# EAGLE library part TL052 (library EAG_2)
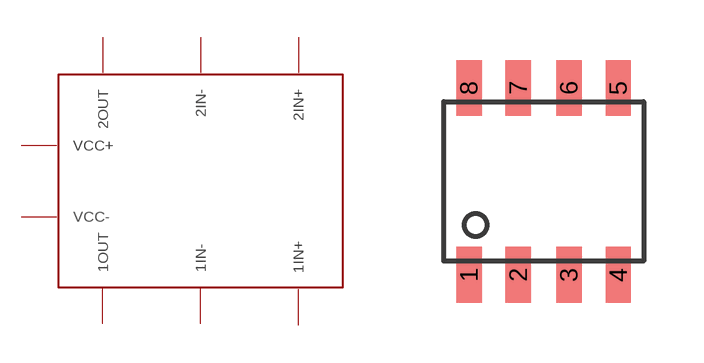
[diagram p0: symbol with the pads of TL052CP; footprint TL052CP]

Designator prefix -

## TL052  [TL052CP]
1  1OUT
2  1IN-
3  1IN+
4  VCC-
5  2IN+
6  2IN-
7  2OUT
8  VCC+

## Footprint TL052CP (pad centres in mm)
smd 0.635 x 1.397: 1 -1.867,-2.337; 2 -0.635,-2.337; 3 0.635,-2.337; 4 1.867,-2.337; 5 1.867,2.337; 6 0.635,2.337; 7 -0.635,2.337; 8 -1.867,2.337